# EAGLE library part LM324DRG3 (library ELE4000_BMS)
OP AMP
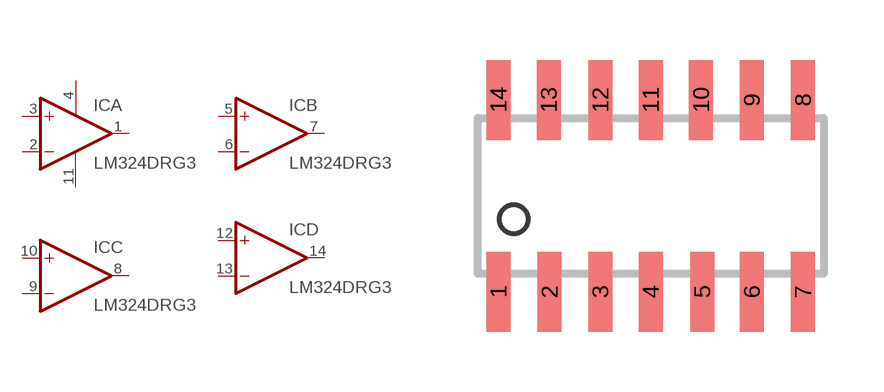
[diagram p3: symbol with the pads of SO14; footprint SO14]

Designator prefix IC; gates A=OPAMP B=OPAMP C=OPAMP D=OPAMP P=PWR+-

## LM324DRG3D  [SO14]
1  A:OUT  out
2  A:-IN  in
3  A:+IN  in
4  P:V+  pwr
5  B:+IN  in
6  B:-IN  in
7  B:OUT  out
8  C:OUT  out
9  C:-IN  in
10  C:+IN  in
11  P:V-  pwr
12  D:+IN  in
13  D:-IN  in
14  D:OUT  out

## Footprint SO14 (pad centres in mm)
Small Outline Package 14
smd 0.6 x 2: 1 -3.81,-2.4; 2 -2.53,-2.4; 3 -1.26,-2.4; 4 0,-2.4; 5 1.29,-2.4; 6 2.53,-2.4; 7 3.81,-2.4; 8 3.81,2.4; 9 2.53,2.4; 10 1.26,2.4; 11 0,2.4; 12 -1.26,2.4; 13 -2.55,2.4; 14 -3.81,2.4